# Altium footprint library PCB.PcbLib: 11 footprints
Each footprint in its own frame and in the unit in brackets; x right, y up, seen from the top. Pads: shape width x height; smd on the part's side, far side on the other; paste and mask are expansions set on the pad; w line width, h text height; cw(c..) or ccw(c..) is an arc to the next point about the centre after c.
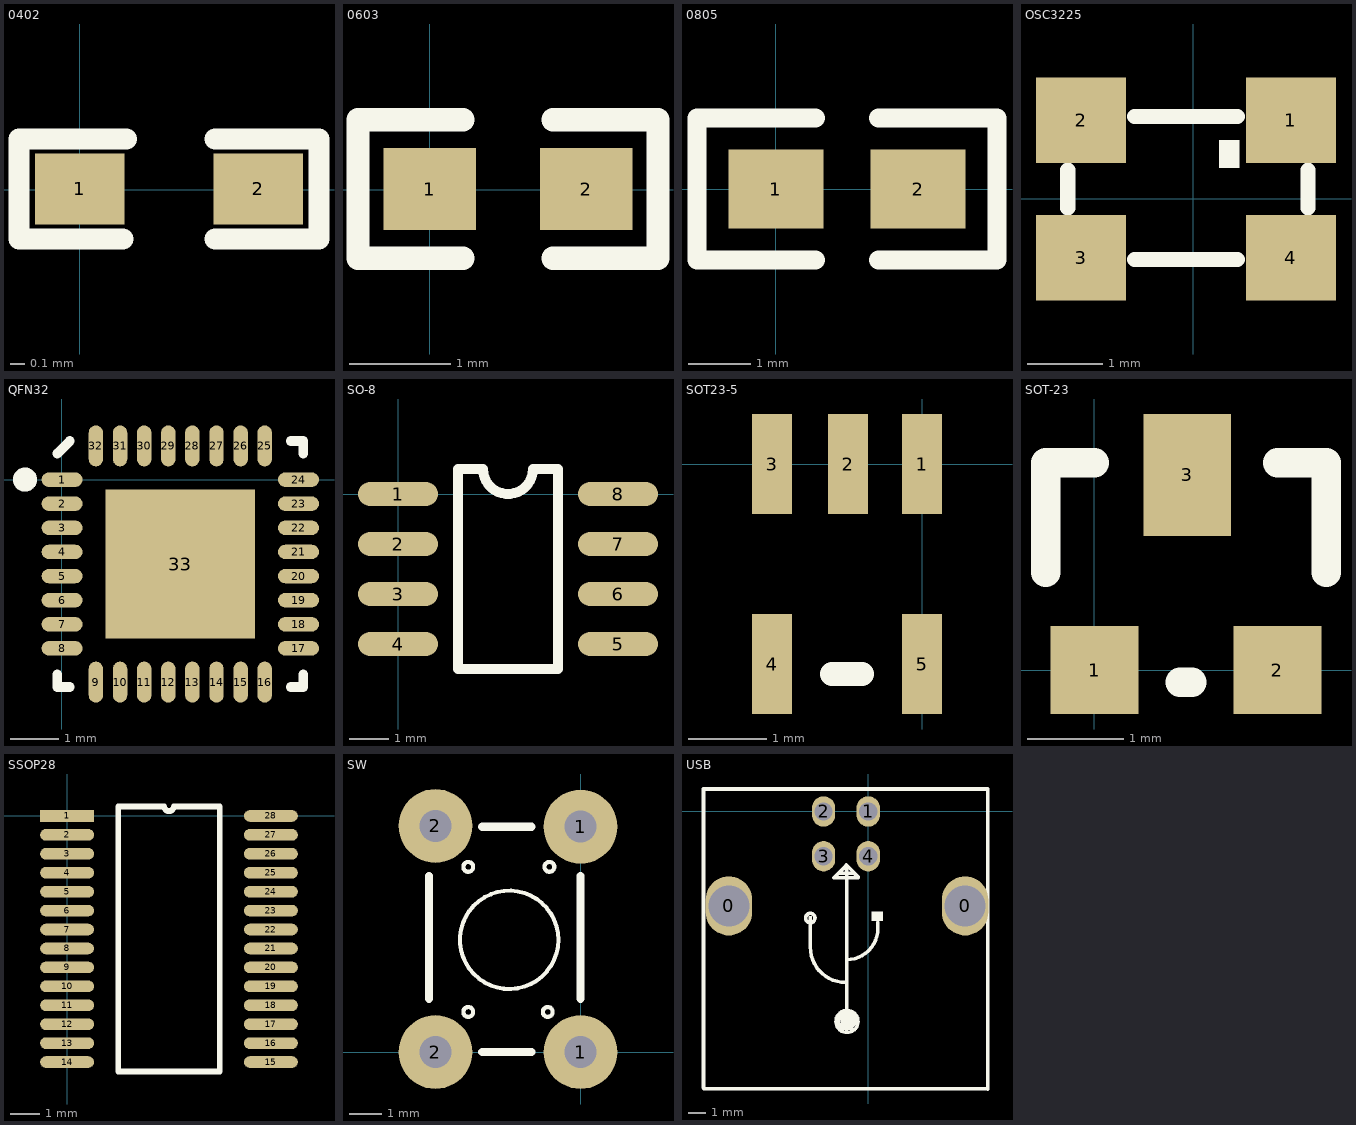
[diagram p0: the footprints below, top view; thin cyan lines are the x and y axes]

## 0402 [mil]
pads (2):
  rect 25x20 smd: 1(-0.04,0.2) 2(49.96,0.2)
TopOverlay:
  lines w6: 11.96,-13.8 -17.04,-13.8 -17.04,14.2 12.96,14.2 ; 37.96,-13.8 66.96,-13.8 66.96,14.2 37.96,14.2

## 0603 [mil]
pads (2):
  rect 36x32 smd: 1(-0.04,0.2) 2(60.96,0.2)
TopOverlay:
  lines w9: 12.96,-26.8 -28.04,-26.8 -28.04,27.2 12.96,27.2 ; 47.96,-26.8 88.96,-26.8 88.96,27.2 47.96,27.2

## 0805 [mil]
pads (2):
  rect 60x50 smd: 1(0.11,0.15) 2(90.11,0.15)
TopOverlay:
  lines w12: 25.11,-44.85 -49.89,-44.85 -49.89,45.15 25.11,45.15 ; 65.11,-44.85 140.11,-44.85 140.11,45.15 65.11,45.15

## OSC3225 [mm]
pads (4):
  rect 1.2x1.143 smd: 1(1.298,1.047) 2(-1.496,1.047) 3(-1.496,-0.782) 4(1.298,-0.782)
TopOverlay:
  region: 0.613,0.787 0.338,0.787 0.338,0.412 0.613,0.412
  lines w0.203: -1.674,-0.122 -1.674,0.386 ; -0.785,-0.808 0.587,-0.808 ; -0.785,1.097 0.587,1.097 ; 1.527,-0.122 1.527,0.386

## QFN32 [mm]
pads (33):
  oval 0.85x0.3 smd: 1(0.011,0.005) 2(0.011,-0.495) 3(0.011,-0.995) 4(0.011,-1.495) 5(0.011,-1.995) 6(0.011,-2.495) 7(0.011,-2.995) 8(0.011,-3.495) 17(4.911,-3.495) 18(4.911,-2.995) 19(4.911,-2.495) 20(4.911,-1.995) 21(4.911,-1.495) 22(4.911,-0.995) 23(4.911,-0.495) 24(4.911,0.005)
  oval 0.3x0.85 smd: 9(0.711,-4.195) 10(1.211,-4.195) 11(1.711,-4.195) 12(2.211,-4.195) 13(2.711,-4.195) 14(3.211,-4.195) 15(3.711,-4.195) 16(4.211,-4.195) 25(4.211,0.705) 26(3.711,0.705) 27(3.211,0.705) 28(2.711,0.705) 29(2.211,0.705) 30(1.711,0.705) 31(1.211,0.705) 32(0.711,0.705)
  rect 3.099x3.099 smd: 33(2.461,-1.745)
TopOverlay:
  circle w0.25: c-0.759,0.005 r0.125
  lines w0.2: -0.089,-4.035 -0.089,-4.295 0.171,-4.295 ; -0.089,0.545 0.171,0.805 ; 4.751,-4.295 5.011,-4.295 5.011,-4.035 ; 4.751,0.805 5.011,0.805 5.011,0.545

## SO-8 [mil]
pads (8):
  oval 80x24 smd: 1(0,0) 2(0,-50) 3(0,-100) 4(0,-150) 5(220,-150) 6(220,-100) 7(220,-50) 8(220,0)
TopOverlay:
  lines w10: 60,-175 160,-175 160,25 135,25 cw(c110,25) 85,25 60,25 60,-175

## SOT23-5 [mil]
pads (5):
  rect 20x50 smd: 1(0,0) 2(-37,0) 3(-75,0) 4(-75,-100) 5(0,-100)
TopOverlay:
  lines w12: -45,-105 -30,-105

## SOT-23 [mil]
pads (3):
  rect 36x36 smd: 1(0.11,0.15) 2(75.11,0.15)
  rect 36x50 smd: 3(38.11,80.15)
TopOverlay:
  lines w12: -19.89,40.15 -19.89,85.15 0.11,85.15 ; 35.11,-4.85 40.11,-4.85 ; 75.11,85.15 95.11,85.15 95.11,40.15

## SSOP28 [mm]
pads (28):
  rect 1.85x0.4 smd: 1(0,0)
  oval 1.85x0.4 smd: 2(0,-0.65) 3(0,-1.3) 4(0,-1.95) 5(0,-2.6) 6(0,-3.25) 7(0,-3.9) 8(0,-4.55) 9(0,-5.2) 10(0,-5.85) 11(0,-6.5) 12(0,-7.15) 13(0,-7.8) 14(0,-8.45) 15(7,-8.45) 16(7,-7.8) 17(7,-7.15) 18(7,-6.5) 19(7,-5.85) 20(7,-5.2) 21(7,-4.55) 22(7,-3.9) 23(7,-3.25) 24(7,-2.6) 25(7,-1.95) 26(7,-1.3) 27(7,-0.65) 28(7,0)
TopOverlay:
  lines w0.2: 1.76,-8.775 1.76,0.325 3.338,0.325 ccw(c3.5,0.325) 3.662,0.325 5.24,0.325 5.24,-8.775 1.76,-8.775

## SW [mil]
pads (4):
  round 90 hole 39: 1(0,0) 1(0,275) 2(-177,0) 2(-177,276)
TopOverlay:
  circle w5: c-137,226 r6
  circle w5: c-137,49 r6
  circle w5: c-40,49 r6
  circle w5: c-38,226 r6
  circle w5: c-87,137 r60
  lines w10: -185,65 -185,215 ; -120,0 -60,0 ; -120,275 -60,275 ; 0,65 0,215

## USB [mm]
pads (6):
  oval 2.6x3.3 hole 2.3: 0(-7.789,-5.281) 0(5.411,-5.281)
  oval 1.3x1.7 hole 1.016: 1(0,0) 2(-2.5,0) 3(-2.5,-2.5) 4(0,-2.5)
TopOverlay:
  rectangle: -1.514,-12.206 -0.814,-11.256
  rectangle: -3.339,-6.031 -3.139,-5.831
  rectangle: 0.186,-6.131 0.836,-5.581
  lines w0.2: -9.206,-15.432 -9.206,1.256 6.669,1.256 6.669,-15.508 ; -9.189,0.169 -9.189,-15.506 6.686,-15.506 6.686,0.169 ; -9.114,1.236 6.686,1.236 ; -3.239,-6.081 -3.239,-7.581 ccw(c-1.264,-7.581) -1.264,-9.556 ; -3.025,-6.105 cw(c-3.239,-5.956) -2.989,-6.032 ; -1.914,-3.706 -0.564,-3.706 -0.814,-3.456 -1.639,-3.456 ; -1.889,-3.681 -1.214,-3.006 -1.214,-11.481 ; -1.614,-11.406 ccw(c-1.214,-11.656) -1.564,-11.34 ; -1.516,-11.207 ccw(c-1.189,-11.731) -1.469,-11.181 ; -1.239,-3.256 -1.239,-2.981 -0.564,-3.656 ; -1.214,-8.281 ccw(c-1.214,-6.531) 0.536,-6.531 0.536,-6.181 ; -1.09,-11.479 ccw(c-1.264,-11.606) -1.05,-11.579